# EAGLE library part 100DP1T1B1M2QEH (library ruark2)
SWITCH TOGGLE DPDT 5A 120V
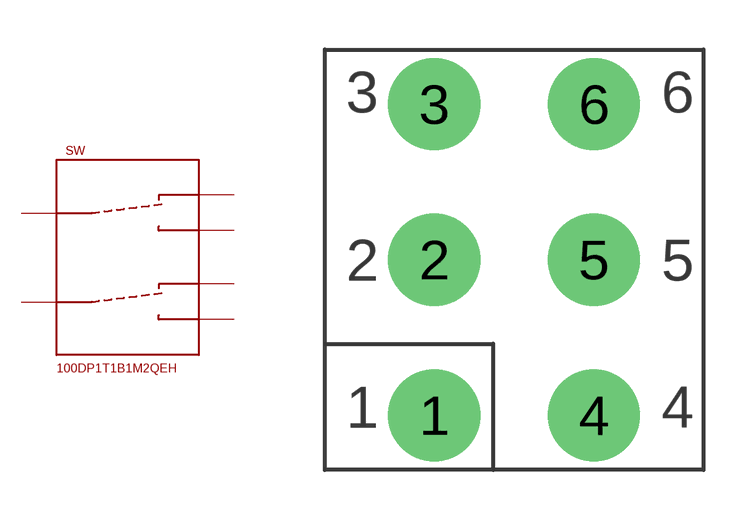
[diagram p42: symbol with the pads of 100DP1T1B1M2QEH; footprint 100DP1T1B1M2QEH]

Designator prefix SW

## 100DP1T1B1M2QEH (PARTNO: EG2400-ND)  [100DP1T1B1M2QEH]
1  1
2  2
3  3
4  4
5  5
6  6

## Footprint 100DP1T1B1M2QEH (pad centres in mm)
drill 1.854: 1 -2.413,-4.699; 2 -2.413,0; 3 -2.413,4.699; 4 2.413,-4.699; 5 2.413,0; 6 2.413,4.699